# EAGLE library part R7008HV (library radio-controllers)
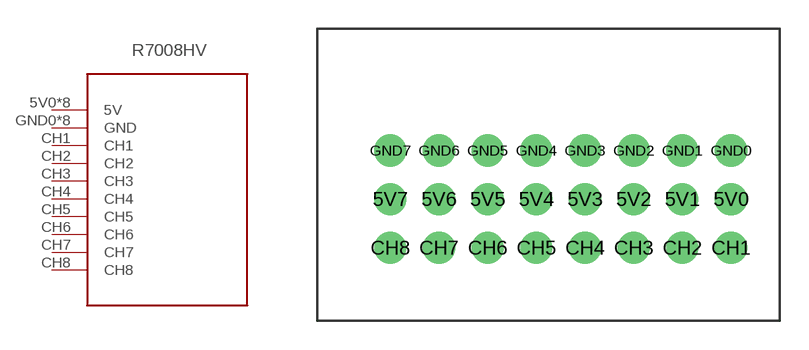
[diagram p0: symbol with the pads of R7008HV; footprint R7008HV]

Designator prefix -

## R7008HV  [R7008HV]
5V0  5V
5V1  5V
5V2  5V
5V3  5V
5V4  5V
5V5  5V
5V6  5V
5V7  5V
CH1  CH1
CH2  CH2
CH3  CH3
CH4  CH4
CH5  CH5
CH6  CH6
CH7  CH7
CH8  CH8
GND0  GND
GND1  GND
GND2  GND
GND3  GND
GND4  GND
GND5  GND
GND6  GND
GND7  GND

## Footprint R7008HV (pad centres in mm)
drill 1 pad 1.676: 5V0 8.89,-1.27; 5V1 6.35,-1.27; 5V2 3.81,-1.27; 5V3 1.27,-1.27; 5V4 -1.27,-1.27; 5V5 -3.81,-1.27; 5V6 -6.35,-1.27; 5V7 -8.89,-1.27; CH1 8.89,-3.81; CH2 6.35,-3.81; CH3 3.81,-3.81; CH4 1.27,-3.81; CH5 -1.27,-3.81; CH6 -3.81,-3.81; CH7 -6.35,-3.81; CH8 -8.89,-3.81; GND0 8.89,1.27; GND1 6.35,1.27; GND2 3.81,1.27; GND3 1.27,1.27; GND4 -1.27,1.27; GND5 -3.81,1.27; GND6 -6.35,1.27; GND7 -8.89,1.27